# Altium footprint library DF13A-12P-1.25H(51).PcbLib: 1 footprints
Each footprint in its own frame and in the unit in brackets; x right, y up, seen from the top. Pads: shape width x height; smd on the part's side, far side on the other; paste and mask are expansions set on the pad; w line width, h text height; cw(c..) or ccw(c..) is an arc to the next point about the centre after c.
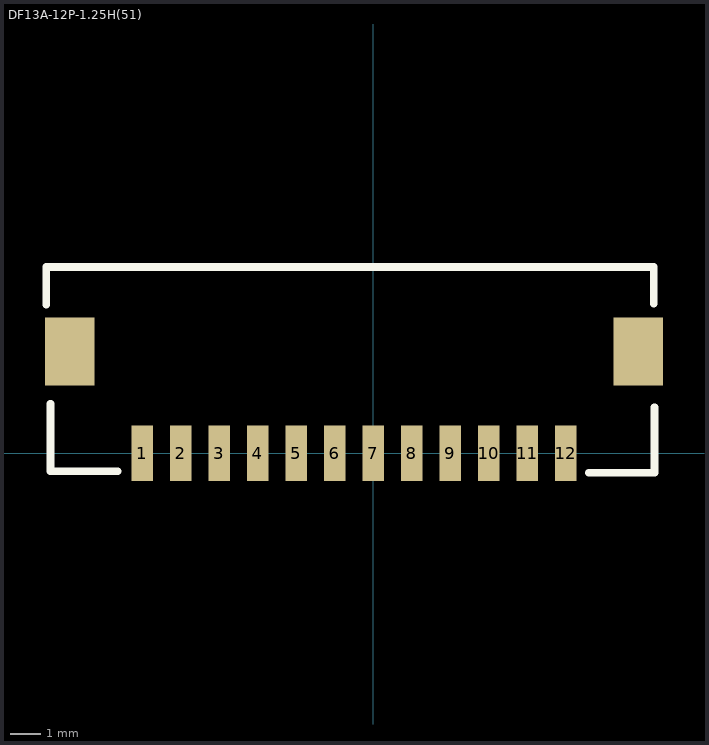
[diagram p0: the footprint, top view; thin cyan lines are the x and y axes]

## DF13A-12P-1.25H(51) [mm]
height 3.6
pads (14):
  rect 0.7x1.8 smd: 1(-7.5,0) 2(-6.25,0) 3(-5,0) 4(-3.75,0) 5(-2.5,0) 6(-1.25,0) 7(0,0) 8(1.25,0) 9(2.5,0) 10(3.75,0) 11(5,0) 12(6.25,0)
  rect 1.6x2.2 smd: ""(-9.85,3.3) ""(8.6,3.3)
Top Overlay:
  lines w0.254: -10.612,4.82 -10.612,6.043 9.101,6.043 9.101,4.858 ; -10.478,1.607 -10.478,-0.584 -8.3,-0.584 ; 7,-0.635 9.127,-0.635 9.127,1.492
3D body "DF13A-12P-1.25H.stp": height 3.68, standoff 0.08, extent -10.46,-0.508 9.19,5.992
3D body "DF13-12S-1.25C.stp": height 3.71, standoff 0.51, extent -9.03,2.858 7.62,6.858